# Altium footprint library TPS61200.PCBLIB: 1 footprints
Each footprint in its own frame and in the unit in brackets; x right, y up, seen from the top. Pads: shape width x height; smd on the part's side, far side on the other; paste and mask are expansions set on the pad; w line width, h text height; cw(c..) or ccw(c..) is an arc to the next point about the centre after c.
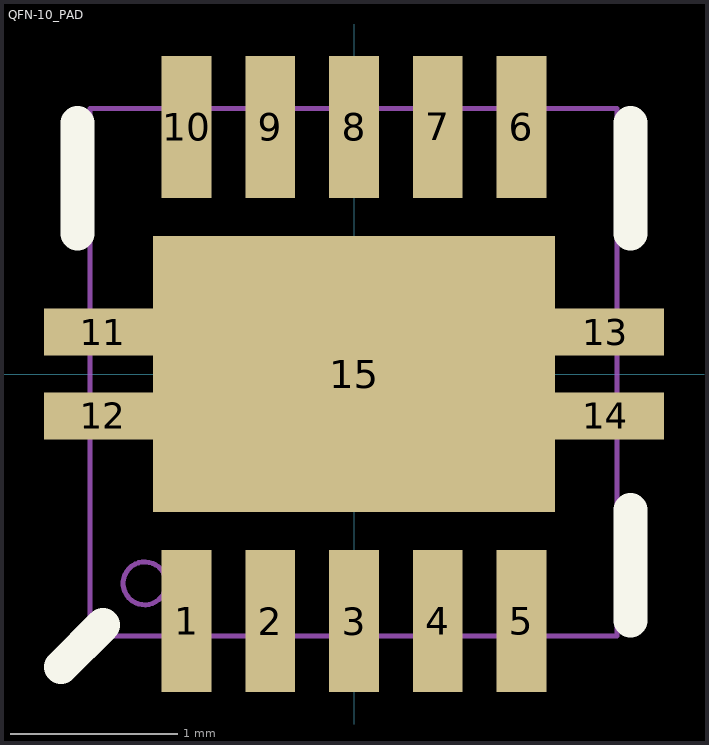
[diagram p0: the footprint, top view; thin cyan lines are the x and y axes]

## QFN-10_PAD [mm]
pads (15):
  rect 0.297x0.85 smd: 1(-1,-1.475) 2(-0.5,-1.475) 3(0,-1.475) 4(0.5,-1.475) 5(1,-1.475) 6(1,1.475) 7(0.5,1.475) 8(0,1.475) 9(-0.5,1.475) 10(-1,1.475)
  rect 0.7x0.28 smd: 11(-1.5,0.25) 12(-1.5,-0.25) 13(1.5,0.25) 14(1.5,-0.25)
  rect 2.4x1.65 smd: 15(0,0)
Top Overlay:
  lines w0.203: -1.75,-1.75 -1.5,-1.5 ; -1.651,0.838 -1.651,1.499 ; 1.651,-1.473 1.651,-0.813 ; 1.651,0.838 1.651,1.499
Top Paste:
  rectangle: -1.194,-0.432 1.194,0.432
  rectangle: -1.125,1.074 -0.876,1.88
  rectangle: -0.625,1.072 -0.376,1.877
  rectangle: -0.625,1.072 -0.376,1.877
  rectangle: -0.124,1.069 0.124,1.875
  rectangle: 0.376,1.072 0.625,1.877
  rectangle: 0.879,1.074 1.128,1.88
  rectangle: -1.125,-1.877 -0.876,-1.072
  rectangle: -0.625,-1.88 -0.376,-1.074
  rectangle: -0.124,-1.877 0.124,-1.072
  rectangle: 0.376,-1.872 0.625,-1.067
  rectangle: 0.876,-1.877 1.125,-1.072
Mechanical 16:
  circle w0.03: c-1.25,-1.25 r0.129
  lines w0.03: -1.575,-1.565 1.57,-1.565 1.57,1.585 -1.575,1.585 -1.575,-1.565